# Altium schematic symbol library Diode-Library.SchLib: 6 symbols
Pins are listed as number, name and electrical type; pins without a type are passive.

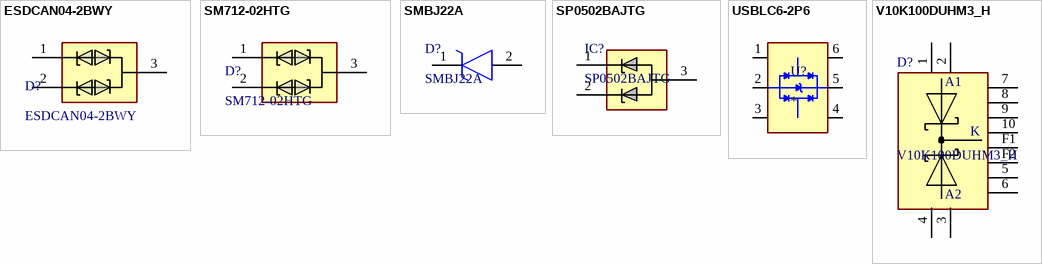
[diagram p0: symbols ESDCAN04-2BWY to V10K100DUHM3_H]

## ESDCAN04-2BWY
designator D?
TVS DIODE 25.5VWM 43VC SOT323-3 / 43V Clamp 3.7A (8/20µs) Ipp Tvs Diode Surface Mount SOT-323-3; Manufacturer: STMicroelectronics; Breakdown Voltage: 29.1V; Value: 17pF; Max Breakdown Voltage: 30.7V; Min Breakdown Voltage: 27.5V; Number of Channels: 2; Peak Pulse Power: 170W; Peak Reverse Current: 50nA; Polarity: Bidirectional; Reverse Standoff Voltage: 25.5V; Supplier: RS; Supplier Part Number: 1924255; Manufacturer Part Number: ESDCAN04-2BWY; RoHS: Compliant; Category: TVS Diodes; Stock: 5375; China RoHS: Compliant; Clamping Voltage: 43V; Country of Origin: Mainland China; Export Control Classification Number (ECCN) Code: EAR99; Harmonized Tariff Schedule (HTS) Code: 8541.10.00.50; Introduction Date: 2018-11-14; Lifecycle Status: Production; Max Operating Temperature: 175°C; Min Operating Temperature: -55°C; Number of Elements: 2; Number of Terminals: 3; Ratings: AEC-Q101; REACH SVHC: Yes; Schedule B: 8536300000, 8536300000|8536300000|8536300000|8536300000|8536300000; ComponentLink1URL: https://datasheet.octopart.com:443/ESDCAN04-2BWY-STMicroelectronics-datasheet-166055823.pdf?src-supplier=Newark; ComponentLink1Description: https://datasheet.octopart.com:443/ESDCAN04-2BWY-STMicroelectronics-datasheet-166055823.pdf?src-supplier=Newark
footprint ESDCAN04-2BWY
pins: 1, 2, 3

## SM712-02HTG
designator D?
SM712 Series 31 V 600 W Surface Mount Asymmetrical TVS Diode Array - SOT-23-3; Manufacturer: Littelfuse; Breakdown Voltage: 13.3V; Value: 75pF; Clamping Voltage: 31V; Direction: Bidirectional; Element Configuration: Dual; Leakage Current: 1µA; Max Power Dissipation: 600W; Max Surge Current: 19A; Min Breakdown Voltage: 7.5V; Number of Bidirectional Channels: 2; Operating Supply Voltage: 12V; Peak Reverse Current: 20µA; Polarity: Unidirectional; Power Line Protection: No; Reverse Standoff Voltage: 7V; Supplier: Farnell; Supplier Part Number: SM712-02HTG; Manufacturer Part Number: SM712-02HTG; RoHS: Compliant; Category: TVS Diodes; Stock: 30901; Case/Package: SOT-23-3; Composition: Zener; Country of Origin: Mainland China; Depth: 1.4mm; Export Control Classification Number (ECCN) Code: EAR99; Height: 1.12mm; Harmonized Tariff Schedule (HTS) Code: 8541.10.00.50; Introduction Date: 2014-06-09; Lead Free: Lead Free; Length: 3.04mm; Lifecycle Status: Production; Max Operating Temperature: 125°C; Min Operating Temperature: -40°C; Mounting Technology: Surface Mount; Number of Channels: 2; Number of Elements: 2; Pins: 3; Number of Terminals: 3; Peak Pulse Current: 19A; Peak Pulse Power: 600W; Radiation Hardening: No; Ratings: AEC-Q101; REACH SVHC: Yes; Schedule B: 8536300000, 8536300000|8536300000|8536300000|8536300000|8536300000|8536300000|8536300000|8536300000|8536300000|8536300000|8536300000|8536300000|8536300000|8536300000|8536300000|8536300000|8536300000|8536300000|8536300000|8536300000|8536300000|8536300000|8536300000|85; Termination: SMD/SMT; Working Voltage: 12V; ComponentLink1URL: https://datasheet.octopart.com:443/SM712-02HTG-Littelfuse-datasheet-141011933.pdf?src-supplier=element14+APAC; ComponentLink1Description: https://datasheet.octopart.com:443/SM712-02HTG-Littelfuse-datasheet-141011933.pdf?src-supplier=element14+APAC; ComponentLink2URL: https://datasheet.octopart.com:443/SM712-02HTG-Littelfuse-datasheet-32866228.pdf?src-supplier=Upverter; ComponentLink2Description: https://datasheet.octopart.com:443/SM712-02HTG-Littelfuse-datasheet-32866228.pdf?src-supplier=Upverter; ComponentLink3URL: https://datasheet.octopart.com:443/SM712-02HTG-Littelfuse-datasheet-82522105.pdf?src-supplier=TME; ComponentLink3Description: https://datasheet.octopart.com:443/SM712-02HTG-Littelfuse-datasheet-82522105.pdf?src-supplier=TME; ComponentLink4URL: https://datasheet.octopart.com:443/SM712-02HTG-Littelfuse-datasheet-175469618.pdf?src-supplier=JRH+Electronics; ComponentLink4Description: https://datasheet.octopart.com:443/SM712-02HTG-Littelfuse-datasheet-175469618.pdf?src-supplier=JRH+Electronics
footprint FP-SM712-MFG
pins: 1, 2, 3

## SMBJ22A
designator D?
Diode TVS Single Uni-Directional 22V 600W 2-Pin DO-214AA; Manufacturer: Taiwan Semiconductor; Manufacturer Lifecycle Status: ACTIVE; Breakdown Voltage: 25.7V; Clamping Voltage: 35.5V; Forward Voltage: 1V; Max Breakdown Voltage: 26.9V; Max Forward Surge Current (Ifsm): 2.5A; Max Junction Temperature (Tj): 150°C; Max Power Dissipation: 3W; Max Repetitive Reverse Voltage (Vrrm): 250V; Max Reverse Leakage Current: 1µA; Max Surge Current: 100A; Min Breakdown Voltage: 24.4V; Number of Channels: 1; Peak Pulse Current: 17.7A; Polarity: Unidirectional; Power Dissipation: 200mW; Reverse Recovery Time: 50ns; Supplier: RS; Supplier Part Number: 8022308; Manufacturer Part Number: SMBJ22A; RoHS: Compliant; Category: TVS Diodes; Stock: 500; China RoHS: Non-Compliant; Country of Origin: Mainland China, Taiwan; Export Control Classification Number (ECCN) Code: EAR99; Height: 2.44mm; Harmonized Tariff Schedule (HTS) Code: 8541.10.00.50; Introduction Date: 1998-01-21; Lead Free: Lead Free; Length: 5.59mm; Lifecycle Status: Production; Max Operating Temperature: 150°C; Min Operating Temperature: -55°C; Number of Elements: 1; Pins: 2; Number of Terminals: 2; Operating Supply Voltage: 22V; Peak Pulse Power: 600W; Peak Reverse Current: 1µA; Power Rating: 600W; REACH SVHC: No; Reverse Standoff Voltage: 22V; Schedule B: 8541100080; Voltage Rating (DC): 22V; Width: 3.94mm; ComponentLink1URL: https://datasheet.octopart.com:443/SMBJ22A-Taiwan-Semiconductor-datasheet-151942224.pdf?src-supplier=TME; ComponentLink1Description: https://datasheet.octopart.com:443/SMBJ22A-Taiwan-Semiconductor-datasheet-151942224.pdf?src-supplier=TME; ComponentLink2URL: https://datasheet.octopart.com:443/SMBJ22A-Taiwan-Semiconductor-datasheet-181551140.pdf?src-supplier=IHS; ComponentLink2Description: https://datasheet.octopart.com:443/SMBJ22A-Taiwan-Semiconductor-datasheet-181551140.pdf?src-supplier=IHS; ComponentLink3URL: https://datasheet.octopart.com:443/SMBJ22A-Taiwan-Semiconductor-datasheet-182396145.pdf?src-supplier=IHS; ComponentLink3Description: https://datasheet.octopart.com:443/SMBJ22A-Taiwan-Semiconductor-datasheet-182396145.pdf?src-supplier=IHS; ComponentLink4URL: https://datasheet.octopart.com:443/SMBJ22A-Taiwan-Semiconductor-datasheet-180789127.pdf?src-supplier=IHS; ComponentLink4Description: https://datasheet.octopart.com:443/SMBJ22A-Taiwan-Semiconductor-datasheet-180789127.pdf?src-supplier=IHS; ComponentLink5URL: https://datasheet.octopart.com:443/SMBJ22A-Taiwan-Semiconductor-datasheet-137249696.pdf?src-supplier=Taiwan+Semiconductor; ComponentLink5Description: https://datasheet.octopart.com:443/SMBJ22A-Taiwan-Semiconductor-datasheet-137249696.pdf?src-supplier=Taiwan+Semiconductor; ComponentLink6URL: https://datasheet.octopart.com:443/SMBJ22A-Taiwan-Semiconductor-datasheet-34355353.pdf?src-supplier=Taiwan+Semiconductor; ComponentLink6Description: https://datasheet.octopart.com:443/SMBJ22A-Taiwan-Semiconductor-datasheet-34355353.pdf?src-supplier=Taiwan+Semiconductor; ComponentLink7URL: https://datasheet.octopart.com:443/SMBJ22A-Taiwan-Semiconductor-datasheet-94061883.pdf?src-supplier=Newark; ComponentLink7Description: https://datasheet.octopart.com:443/SMBJ22A-Taiwan-Semiconductor-datasheet-94061883.pdf?src-supplier=Newark
footprint SMBJ22A
pins: 1 K, 2 A

## SP0502BAJTG
designator IC?
Integrated Circuit; Manufacturer_Name: LITTELFUSE; Datasheet Link: https://www.littelfuse.com/~/media/electronics/datasheets/tvs_diode_arrays/littelfuse_tvs_diode_array_sp05_datasheet.pdf.pdf; Height: 1.1mm; Manufacturer_Part_Number: SP0502BAJTG; Mouser Part Number: 576-SP0502BAJTG; Mouser Price/Stock: https://www.mouser.co.uk/ProductDetail/Littelfuse/SP0502BAJTG?qs=RnOBYWd%2Fz7cttN1Mwg4HWA%3D%3D; Arrow Part Number: SP0502BAJTG; Arrow Price/Stock: https://www.arrow.com/en/products/sp0502bajtg/littelfuse?region=nac
footprint SOT132P220X110-3N
pins: 1, 2, 3

## USBLC6-2P6
designator U?
USBLC6 Series 2 Channel 5.25 V SMT Uni-Directional ±15 kV ESD Protection-SOT-666; MF: STMicroelectronics; MP: USBLC6-2P6; Breakdown Voltage: 6V; Clamping Voltage: 17V; Direction: Unidirectional; Element Configuration: Dual; ESD Protection: Yes; Leakage Current: 150nA; Max Junction Temperature (Tj): 125°C; Max Repetitive Reverse Voltage (Vrrm): 5.25V; Number of Bidirectional Channels: 2; Number of Elements: 1; Peak Pulse Current: 5A; Reverse Standoff Voltage: 5V; Test Current: 1mA; SnapEDA_Link: https://www.snapeda.com/parts/USBLC6-2P6/STMicroelectronics/view-part/?ref=snap; Package: SOT-666 STMicroelectronics; Value: *; Check_prices: https://www.snapeda.com/parts/USBLC6-2P6/STMicroelectronics/view-part/?ref=eda; Supplier: RS; Supplier Part Number: 6247687P; Manufacturer: STMicroelectronics; Manufacturer Part Number: USBLC6-2P6; RoHS: Compliant; Category: TVS Diodes; Stock: 20310; Case/Package: SOT-666; China RoHS: Compliant; Contact Plating: Tin; Depth: 1.3mm; Height: 600µm; Lead Free: Lead Free; Length: 1.7mm; Lifecycle Status: Production; Max Breakdown Voltage: 6V; Max Operating Temperature: 125°C; Max Reverse Leakage Current: 150nA; Min Breakdown Voltage: 6V; Min Operating Temperature: -40°C; Mounting Technology: Surface Mount; Number of Channels: 2; Pins: 6; Number of Terminals: 6; Polarity: Unidirectional; Power Line Protection: Yes; Radiation Hardening: No; REACH SVHC: Yes; Reverse Breakdown Voltage: 6V; Schedule B: 8536300000, 8536300000|8536300000|8536300000|8536300000|8536300000; Termination: SMD/SMT; Width: 1.3mm; Working Voltage: 5V; ComponentLink1URL: https://datasheet.octopart.com:443/USBLC6-2P6-STMicroelectronics-datasheet-10412581.pdf?src-supplier=element14+APAC; ComponentLink1Description: https://datasheet.octopart.com:443/USBLC6-2P6-STMicroelectronics-datasheet-10412581.pdf?src-supplier=element14+APAC; ComponentLink2URL: https://datasheet.octopart.com:443/USBLC6-2P6-STMicroelectronics-datasheet-525477.pdf?src-supplier=Factory+Futures; ComponentLink2Description: https://datasheet.octopart.com:443/USBLC6-2P6-STMicroelectronics-datasheet-525477.pdf?src-supplier=Factory+Futures; ComponentLink3URL: https://datasheet.octopart.com:443/USBLC6-2P6-STMicroelectronics-datasheet-181961833.pdf?src-supplier=Newark; ComponentLink3Description: https://datasheet.octopart.com:443/USBLC6-2P6-STMicroelectronics-datasheet-181961833.pdf?src-supplier=Newark; ComponentLink4URL: https://datasheet.octopart.com:443/USBLC6-2P6-STMicroelectronics-datasheet-46285.pdf?src-supplier=Farnell; ComponentLink4Description: https://datasheet.octopart.com:443/USBLC6-2P6-STMicroelectronics-datasheet-46285.pdf?src-supplier=Farnell; ComponentLink5URL: https://datasheet.octopart.com:443/USBLC6-2P6-STMicroelectronics-datasheet-14050643.pdf?src-supplier=iiiC; ComponentLink5Description: https://datasheet.octopart.com:443/USBLC6-2P6-STMicroelectronics-datasheet-14050643.pdf?src-supplier=iiiC; ComponentLink6URL: https://datasheet.octopart.com:443/USBLC6-2P6-STMicroelectronics-datasheet-7828165.pdf?src-supplier=Jameco; ComponentLink6Description: https://datasheet.octopart.com:443/USBLC6-2P6-STMicroelectronics-datasheet-7828165.pdf?src-supplier=Jameco
footprint SOT50P160X60-6N
pins: 1 I/O1_1 (io), 2 GND (power), 3 I/O2_1 (io), 4 I/O2_2 (io), 5 VBUS (power), 6 I/O1_2 (io)

## V10K100DUHM3_H
designator D?
Schottky Diodes & Rectifiers 10A 100V TMBS FlatPAK 5x6; Manufacturer_Name: Vishay; Manufacturer_Part_Number: V10K100DUHM3/H; Geometry.Height: 1.09mm; Mouser Part Number: 78-V10K100DUHM3/H; Mouser Price/Stock: https://www.mouser.co.uk/ProductDetail/Vishay-General-Semiconductor/V10K100DUHM3-H/?qs=u16ybLDytRayB9owesg4qQ%3D%3D; Arrow Part Number: *; Arrow Price/Stock: *; Datasheet Link: https://www.farnell.com/datasheets/2721061.pdf
footprint V10K100DUHM3H
pins: 1, 2, 3, 4, 5, 6, 7, 8, 9, 10, F1, F2
text: A1; K; A2